# EAGLE library part AD7794 (library PikiTech)
6ch 24bit s/d ADC
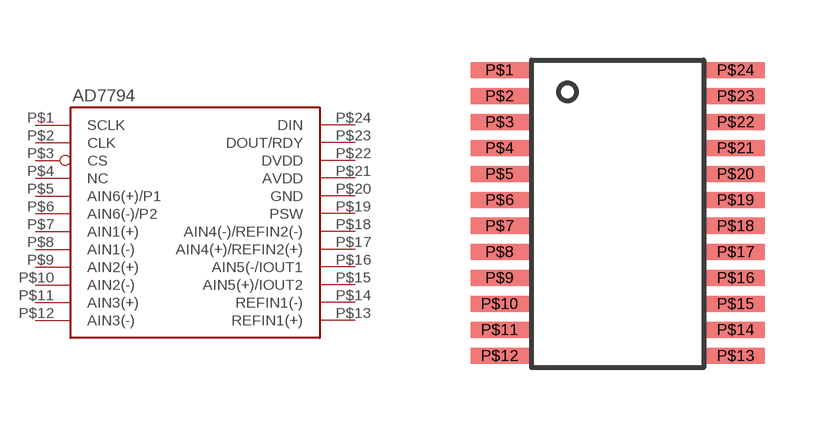
[diagram p5: symbol with the pads of TSSOP-24; footprint TSSOP-24]

Designator prefix -

## AD7794  [TSSOP-24]
P$1  SCLK
P$2  CLK
P$3  CS
P$4  NC
P$5  AIN6(+)/P1
P$6  AIN6(-)/P2
P$7  AIN1(+)
P$8  AIN1(-)
P$9  AIN2(+)
P$10  AIN2(-)
P$11  AIN3(+)
P$12  AIN3(-)
P$13  REFIN1(+)
P$14  REFIN1(-)
P$15  AIN5(+)/IOUT2
P$16  AIN5(-/IOUT1
P$17  AIN4(+)/REFIN2(+)
P$18  AIN4(-)/REFIN2(-)
P$19  PSW
P$20  GND
P$21  AVDD
P$22  DVDD
P$23  DOUT/RDY
P$24  DIN

## Footprint TSSOP-24 (pad centres in mm)
TSSOP-24
smd 1.45 x 0.4: P$1 0,0; P$2 0,-0.65; P$3 0,-1.3; P$4 0,-1.95; P$5 0,-2.6; P$6 0,-3.25; P$7 0,-3.9; P$8 0,-4.55; P$9 0,-5.2; P$10 0,-5.85; P$11 0,-6.5; P$12 0,-7.15; P$13 5.9,-7.15; P$14 5.9,-6.5; P$15 5.9,-5.85; P$16 5.9,-5.2; P$17 5.9,-4.55; P$18 5.9,-3.9; P$19 5.9,-3.25; P$20 5.9,-2.6; P$21 5.9,-1.95; P$22 5.9,-1.3; P$23 5.9,-0.65; P$24 5.9,0